# EAGLE library part PARTICLE-STUDIOS_LTC7103 (library AT SoM Carrier Board V0.3r2)
Analog Devices 105V, 2.3A Low EMI Synchronous Step-Down Regulator
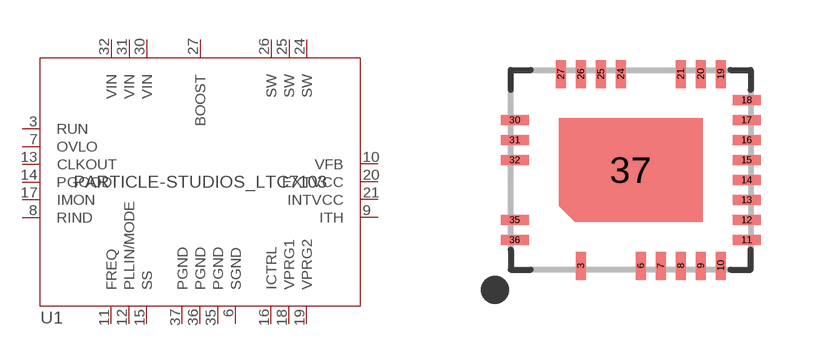
[diagram p7: symbol with the pads of PARTICLE-STUDIOS_UHE36(26)QFN; footprint PARTICLE-STUDIOS_UHE36(26)QFN]

Designator prefix U1

## PARTICLE-STUDIOS_LTC7103  [PARTICLE-STUDIOS_UHE36(26)QFN]
3  RUN
6  SGND  pwr
7  OVLO
8  RIND
9  ITH
10  VFB
11  FREQ
12  PLLIN/MODE
13  CLKOUT
14  PGOOD
15  SS
16  ICTRL
17  IMON
18  VPRG1
19  VPRG2
20  EXTVCC
21  INTVCC
24  SW  pwr
25  SW  pwr
26  SW  pwr
27  BOOST
30  VIN  pwr
31  VIN  pwr
32  VIN  pwr
35  PGND  pwr
36  PGND  pwr
37  PGND  pwr

## Footprint PARTICLE-STUDIOS_UHE36(26)QFN (pad centres in mm)
smd 0.25 x 0.7: 3 -1.25,-2.4; 6 0.25,-2.4; 7 0.75,-2.4; 8 1.25,-2.4; 9 1.75,-2.4; 10 2.25,-2.4; 19 2.25,2.4; 20 1.75,2.4; 21 1.25,2.4; 24 -0.25,2.4; 25 -0.75,2.4; 26 -1.25,2.4; 27 -1.75,2.4
smd 0.7 x 0.25: 11 2.9,-1.75; 12 2.9,-1.25; 13 2.9,-0.75; 14 2.9,-0.25; 15 2.9,0.25; 16 2.9,0.75; 17 2.9,1.25; 18 2.9,1.75; 30 -2.9,1.25; 31 -2.9,0.75; 32 -2.9,0.25; 35 -2.9,-1.25; 36 -2.9,-1.75
smd 1 x 1: 37 0,0